# Altium schematic symbol library UJT-P.Schlib: 1 symbol
Pins are listed as number, name and electrical type; pins without a type are passive.

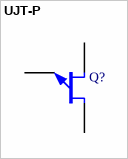
[diagram p0: symbol UJT-P]

## UJT-P
designator Q?
Unijunction Transistor with P-Type Base
pins: 1 E, 2 B1, 3 B2